# Altium schematic symbol library Power.SchLib: 5 symbols
Pins are listed as number, name and electrical type; pins without a type are passive.

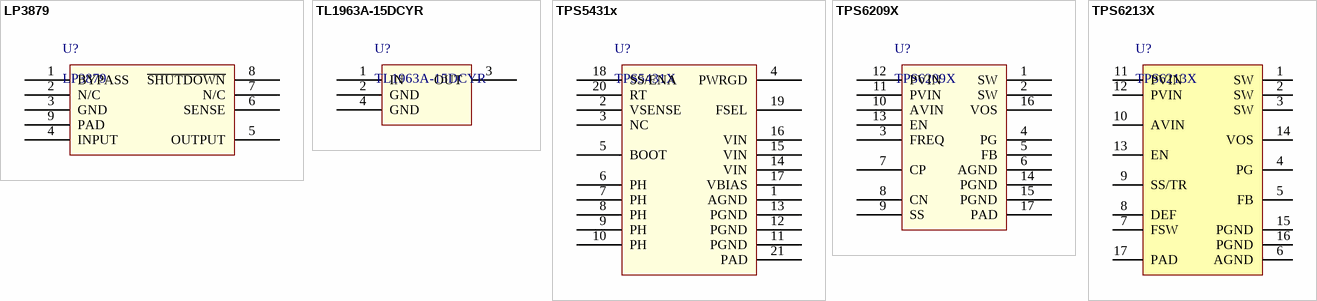
[diagram p0: symbols LP3879 to TPS6213X]

## LP3879
designator U?
footprint MRA08A
pins: 1 BYPASS, 2 N/C, 3 GND, 4 INPUT, 5 OUTPUT, 6 SENSE, 7 N/C, 8 ~{SHUTDOWN}, 9 PAD

## TL1963A-15DCYR
designator U?
footprint DCY4
pins: 1 IN, 2 GND, 3 OUT, 4 GND

## TPS5431x
designator U?, comment TPS5431X
footprint PWP20_3P4X2P4
pins: 1 AGND, 2 VSENSE, 3 NC, 4 PWRGD, 5 BOOT, 6 PH, 7 PH, 8 PH, 9 PH, 10 PH, 11 PGND, 12 PGND, 13 PGND, 14 VIN, 15 VIN, 16 VIN, 17 VBIAS, 18 SS/ENA, 19 FSEL, 20 RT, 21 PAD

## TPS6209X
designator U?
footprint RGT16_1P7X1P7
pins: 1 SW, 2 SW, 3 FREQ, 4 PG, 5 FB, 6 AGND, 7 CP, 8 CN, 9 SS, 10 AVIN, 11 PVIN, 12 PVIN, 13 EN, 14 PGND, 15 PGND, 16 VOS, 17 PAD

## TPS6213X
designator U?
footprint RGT16_1P7X1P7
pins: 1 SW, 2 SW, 3 SW, 4 PG, 5 FB, 6 AGND, 7 FSW, 8 DEF, 9 SS/TR, 10 AVIN, 11 PVIN, 12 PVIN, 13 EN, 14 VOS, 15 PGND, 16 PGND, 17 PAD